# Altium schematic symbol library SemiConductors.SchLib: 16 symbols
Pins are listed as number, name and electrical type; pins without a type are passive.

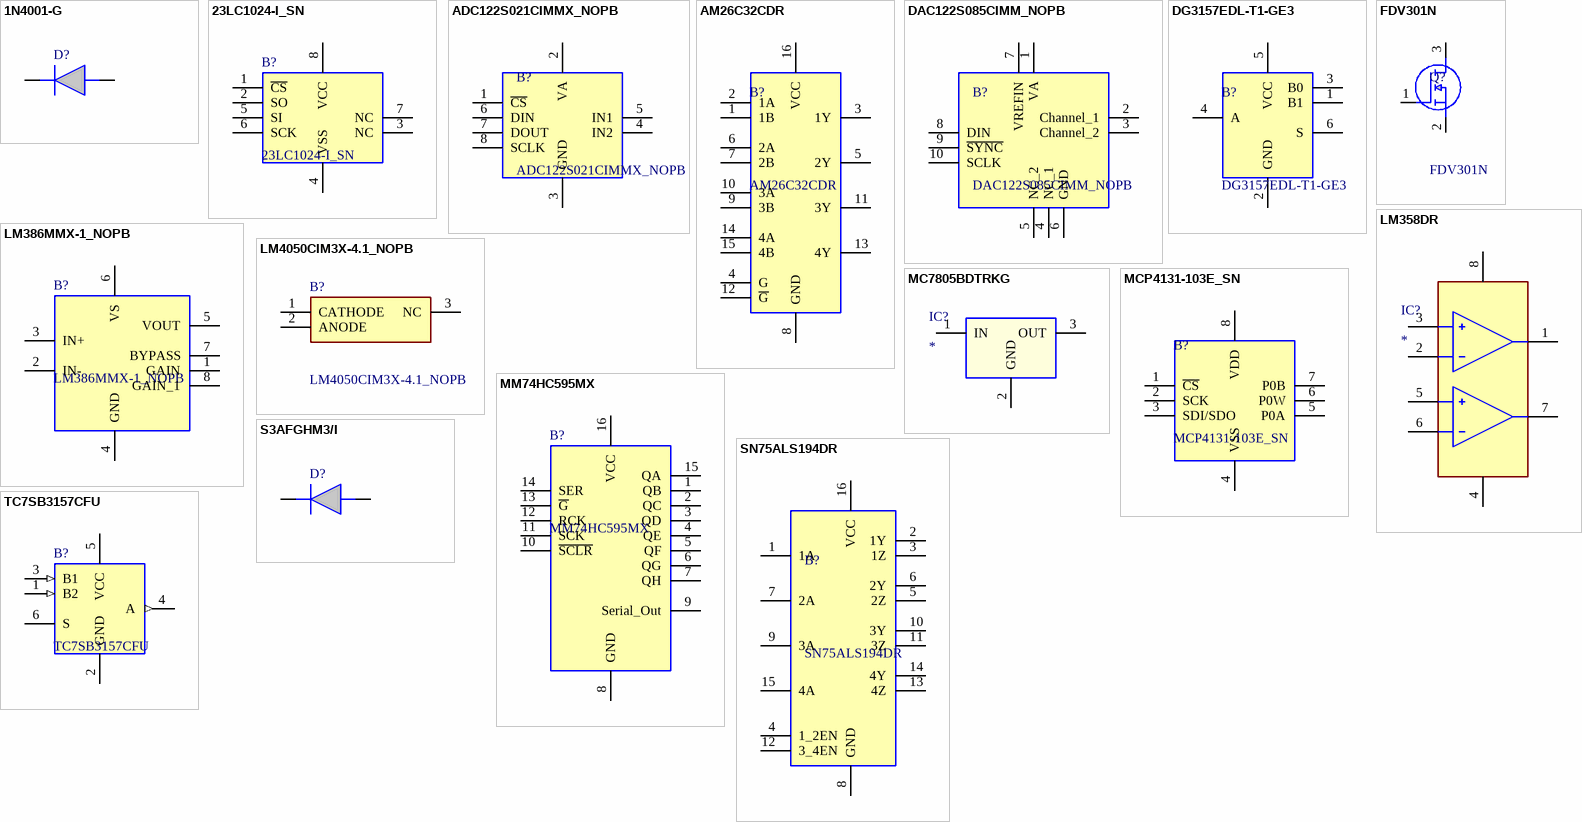
[diagram p0: symbols 1N4001-G to TC7SB3157CFU]

## 1N4001-G
designator D?
Rectifiers VR=50V, IO=1A; Manufacturer_Name: Comchip Technology; Mouser Part Number: 750-1N4001-G; Mouser Price/Stock: https://www.mouser.co.uk/ProductDetail/Comchip-Technology/1N4001-G?qs=2qJf6qQ4IOKJYZQUWvVExw%3D%3D; Manufacturer_Part_Number: 1N4001-G; Datasheet Link: https://datasheet.datasheetarchive.com/originals/distributors/Datasheets-7/DSA-138621.pdf
footprint DIOAD1460W90L466D248
pins: 1 K, 2 A

## 23LC1024-I_SN
designator B?
SRAM,1Mbit,2.5V,20MHz,SPI/SDI/SQI,SOIC8 23LC1024-I/SN,  SRAM Memory 1Mbit, 128K words x 8 bit, 20MHz,, 2.5 to 5.5 V, 8-Pin, SOIC; Manufacturer_Name: Microchip; Geometry.Height: 1.75mm; Mouser Part Number: 579-23LC1024-I/SN; Mouser Price/Stock: https://www.mouser.co.uk/ProductDetail/Microchip-Technology-Atmel/23LC1024-I-SN?qs=q1LPnGnpSmb1WpXt0vqW%2FQ%3D%3D; Manufacturer_Part_Number: 23LC1024-I/SN; Datasheet Link: http://ww1.microchip.com/downloads/en/DeviceDoc/20005142C.pdf
footprint SOIC127P600X175-8N
pins: 1 ~{CS}, 2 SO, 3 NC, 4 VSS, 5 SI, 6 SCK, 7 NC, 8 VCC

## ADC122S021CIMMX_NOPB
designator B?
2 Channel, 50 ksps to 200 ksps 12-Bit A/D Converter; Manufacturer_Name: Texas Instruments; Manufacturer_Part_Number: ADC122S021CIMMX/NOPB; Geometry.Height: 1.1mm; Mouser Part Number: 926-A122S021CIMMXNPB; Mouser Price/Stock: https://www.mouser.co.uk/ProductDetail/Texas-Instruments/ADC122S021CIMMX-NOPB/?qs=7X5t%252BdzoRHB2bC7Teu8H3A%3D%3D; Datasheet Link: http://www.ti.com/lit/gpn/ADC122S021
footprint SOP65P490X110-8N
pins: 1 ~{CS}, 2 VA, 3 GND, 4 IN2, 5 IN1, 6 DIN, 7 DOUT, 8 SCLK

## AM26C32CDR
designator B?
TEXAS INSTRUMENTS - AM26C32CDR - Receiver RS422/423, 4 Drivers, 4.5V-5.5V supply, SOIC-16; Geometry.Height: 1.75mm; Mouser Part Number: 595-AM26C32CDR; Mouser Price/Stock: https://www.mouser.co.uk/ProductDetail/Texas-Instruments/AM26C32CDR?qs=LgZHeZZt5MVmFjCK4imaTA%3D%3D; Manufacturer_Name: Texas Instruments; Manufacturer_Part_Number: AM26C32CDR; Datasheet Link: https://www.ti.com/lit/ds/symlink/am26c32.pdf?ts=1601403310434&ref_url=https%253A%252F%252Fwww.ti.com%252Fproduct%252FAM26C32
footprint Model Name (Footprint not found)
footprint SOIC127P600X175-16N
pins: 1 1B, 2 1A, 3 1Y, 4 G, 5 2Y, 6 2A, 7 2B, 8 GND, 9 3B, 10 3A, 11 3Y, 12 ~{G}, 13 4Y, 14 4A, 15 4B, 16 VCC (power)

## DAC122S085CIMM_NOPB
designator B?
12-Bit Micro Power DUAL Digital-to-Analog Converter with Rail-to-Rail Output; Manufacturer_Name: Texas Instruments; Manufacturer_Part_Number: DAC122S085CIMM/NOPB; Geometry.Height: 1.1mm; Mouser Part Number: 926-DAC122S085CIMMNO; Mouser Price/Stock: https://www.mouser.co.uk/ProductDetail/Texas-Instruments/DAC122S085CIMM-NOPB/?qs=7X5t%252BdzoRHCSswOz%252BE6yGA%3D%3D; Datasheet Link: http://www.ti.com/lit/gpn/dac122s085
footprint SOP50P490X110-10N
pins: 1 VA, 2 Channel_1, 3 Channel_2, 4 NC_1, 5 NC_2, 6 GND, 7 VREFIN, 8 DIN, 9 ~{SYNC}, 10 SCLK

## DG3157EDL-T1-GE3
designator B?
Vishay DG3157EDL-T1-GE3 Analogue SPDT Switch 1.65 to 5.5 V, 6-Pin SC-70; Geometry.Height: 1.1mm; Mouser Part Number: 78-DG3157EDL-T1-GE3; Mouser Price/Stock: https://www.mouser.co.uk/ProductDetail/Vishay-Siliconix/DG3157EDL-T1-GE3?qs=fA06TrWLL4foa%252BeCWkw4dg%3D%3D; Manufacturer_Name: Vishay; Manufacturer_Part_Number: DG3157EDL-T1-GE3; Datasheet Link: https://eagle.componentsearchengine.com/Datasheets/2/DG3157EDL-T1-GE3.pdf
footprint SOT65P210X110-6N
pins: 1 B1, 2 GND, 3 B0, 4 A, 5 VCC, 6 S

## FDV301N
designator Q?
MOSFET N-Channel 25V 0.5A SOT23 Fairchild FDV301N N-channel MOSFET Transistor, 0.22 A, 25 V, 3-Pin SOT-23; Manufacturer_Name: onsemi; Geometry.Height: 1.11mm; Mouser Part Number: 512-FDV301N; Mouser Price/Stock: https://www.mouser.co.uk/ProductDetail/onsemi-Fairchild/FDV301N?qs=HK%252BeIG1iaahv7gPT5tsFJQ%3D%3D; Manufacturer_Part_Number: FDV301N; Datasheet Link: https://datasheet.datasheetarchive.com/originals/distributors/Datasheets_SAMA/0cce9550595c1a9ba17b856c55fee955.pdf
footprint SOT96P237X111-3N
pins: 1 G, 2 S, 3 D

## LM358DR
designator IC?
Integrated Circuit; Manufacturer_Name: Texas Instruments; Manufacturer_Part_Number: LM358DR; Datasheet Link: https://www.ti.com/lit/ds/symlink/lm358.pdf?ts=1593170624750&ref_url=https%253A%252F%252Fwww.ti.com%252Fstore%252Fti%252Fen%252Fp%252Fproduct%252F%253Fp%253DLM358DR%2526keyMatch%253DLM358DR%2526tisearch%253DSearch-EN-everything%2526usecase%253DOPN; Height: 1.75mm; Mouser Part Number: 595-LM358DR; Mouser Price/Stock: https://www.mouser.co.uk/ProductDetail/Texas-Instruments/LM358DR?qs=Zu35EjizYSSY6pJ37yjmHA%3D%3D; Arrow Part Number: LM358DR; Arrow Price/Stock: https://www.arrow.com/en/products/lm358dr/texas-instruments?region=nac
footprint SOIC127P600X175-8N
pins: 1 OUT1, 2 IN1-, 3 IN1+, 4 V-, 5 IN2+, 6 IN2-, 7 OUT2, 8 V+

## LM386MMX-1_NOPB
designator B?
Wide Input Voltage Low Power Audio Amplifier with Internal Gain; Manufacturer_Name: Texas Instruments; Manufacturer_Part_Number: LM386MMX-1/NOPB; Geometry.Height: 1.1mm; Mouser Part Number: 926-LM386MMX-1/NOPB; Mouser Price/Stock: https://www.mouser.co.uk/ProductDetail/Texas-Instruments/LM386MMX-1-NOPB?qs=QbsRYf82W3EjpN1OWIJmZA%3D%3D; Datasheet Link: http://www.ti.com/lit/gpn/lm386
footprint SOP65P490X110-8N
pins: 1 GAIN, 2 IN-, 3 IN+, 4 GND, 5 VOUT, 6 VS, 7 BYPASS, 8 GAIN_1

## LM4050CIM3X-4.1_NOPB
designator B?
50ppm/C Precision Micropower Shunt Voltage Reference; Manufacturer_Name: Texas Instruments; Manufacturer_Part_Number: LM4050CIM3X-4.1/NOPB; Geometry.Height: 0.95mm; Mouser Part Number: 926-LM4050CIM3X41NPB; Mouser Price/Stock: https://www.mouser.co.uk/ProductDetail/Texas-Instruments/LM4050CIM3X-4.1-NOPB?qs=QbsRYf82W3Em%2F29oRlpByg%3D%3D; Datasheet Link: http://www.ti.com/lit/gpn/lm4050-n
footprint SOT95P237X95-3N
pins: 1 CATHODE, 2 ANODE, 3 NC

## MC7805BDTRKG
designator IC?
Integrated Circuit; Manufacturer_Name: onsemi; Manufacturer_Part_Number: MC7805BDTRKG; Datasheet Link: https://componentsearchengine.com/Datasheets/2/MC7805BDTRKG.pdf; Height: 2.38mm; Mouser Part Number: 863-MC7805BDTRKG; Mouser Price/Stock: https://www.mouser.co.uk/ProductDetail/onsemi/MC7805BDTRKG?qs=%252B9%2Fcbd0IE0RVSCV5SBH6%2FA%3D%3D; Arrow Part Number: MC7805BDTRKG; Arrow Price/Stock: https://www.arrow.com/en/products/mc7805bdtrkg/on-semiconductor?region=nac
footprint LM317MADTRKG
pins: 1 IN, 2 GND, 3 OUT

## MCP4131-103E_SN
designator B?
Digital Potentiometer 128 Step 10kOhm; Manufacturer_Name: Microchip; Manufacturer_Part_Number: MCP4132-103E/SN; Geometry.Height: 1.75mm; Mouser Part Number: 579-MCP4132-103E/SN; Mouser Price/Stock: https://www.mouser.co.uk/ProductDetail/Microchip-Technology/MCP4132-103E-SN?qs=hH%252BOa0VZEiDq5PW83qTf7Q%3D%3D; Datasheet Link: http://ww1.microchip.com/downloads/en/DeviceDoc/22060b.pdf
footprint SOIC127P600X175-8N
pins: 1 ~{CS}, 2 SCK, 3 SDI/SDO, 4 VSS, 5 P0A, 6 P0W, 7 P0B, 8 VDD

## MM74HC595MX
designator B?
Shift Register HS 8 Bit CMOS SOIC16; Manufacturer_Name: onsemi; Geometry.Height: 1.75mm; Mouser Part Number: 512-MM74HC595MX; Mouser Price/Stock: https://www.mouser.co.uk/ProductDetail/onsemi-Fairchild/MM74HC595MX?qs=Qb0BA3xILelPReDH8l7J4w%3D%3D; Manufacturer_Part_Number: MM74HC595MX; Datasheet Link: *
footprint SOIC127P600X175-16N
pins: 1 QB, 2 QC, 3 QD, 4 QE, 5 QF, 6 QG, 7 QH, 8 GND, 9 Serial_Out, 10 ~{SCLR}, 11 SCK, 12 RCK, 13 ~{G}, 14 SER, 15 QA, 16 VCC

## S3AFGHM3/I
designator D?, comment S3AFGHM3
Rectifiers VR=400V, IO=3A; Manufacturer_Name: Comchip Technology; Manufacturer_Part_Number: 1N4001-G; Mouser Part Number: 750-1N4001-G; Mouser Price/Stock: https://www.mouser.co.uk/ProductDetail/Comchip-Technology/1N4001-G?qs=2qJf6qQ4IOKJYZQUWvVExw%3D%3D; Datasheet Link: https://datasheet.datasheetarchive.com/originals/distributors/Datasheets-7/DSA-138621.pdf
footprint DO-221AC
pins: 1 K, 2 A

## SN75ALS194DR
designator B?
Quadruple Differential Line Driver; Manufacturer_Name: Texas Instruments; Geometry.Height: 1.75mm; Mouser Part Number: 595-SN75ALS194DR; Mouser Price/Stock: https://www.mouser.co.uk/ProductDetail/Texas-Instruments/SN75ALS194DR?qs=o4busQjUnQZsKwe8Vn%2FFUg%3D%3D; Manufacturer_Part_Number: SN75ALS194DR; Datasheet Link: http://www.ti.com/lit/gpn/sn75als194
footprint SOIC127P600X175-16N
pins: 1 1A, 2 1Y, 3 1Z, 4 1_2EN, 5 2Z, 6 2Y, 7 2A, 8 GND, 9 3A, 10 3Y, 11 3Z, 12 3_4EN, 13 4Z, 14 4Y, 15 4A, 16 VCC

## TC7SB3157CFU
designator B?
TC7SB3157CFU MUX 2 in 1 out with control bit; Manufacturer_Name: Nexperia; Manufacturer_Part_Number: PMP3906AYSH; Geometry.Height: 1.1mm; Mouser Part Number: 771-PMP3906AYSH; Mouser Price/Stock: https://www.mouser.co.uk/ProductDetail/Nexperia/PMP3906AYSH?qs=vvQtp7zwQdPhl6IciBiaKA%3D%3D; Datasheet Link: https://assets.nexperia.com/documents/data-sheet/PMP3906AYS.pdf
footprint SOT-363-6
pins: 1 B2 (in), 2 GND, 3 B1 (in), 4 A (out), 5 VCC, 6 S